# Altium schematic symbol library Semiconductor.SchLib: 8 symbols
Pins are listed as number, name and electrical type; pins without a type are passive.

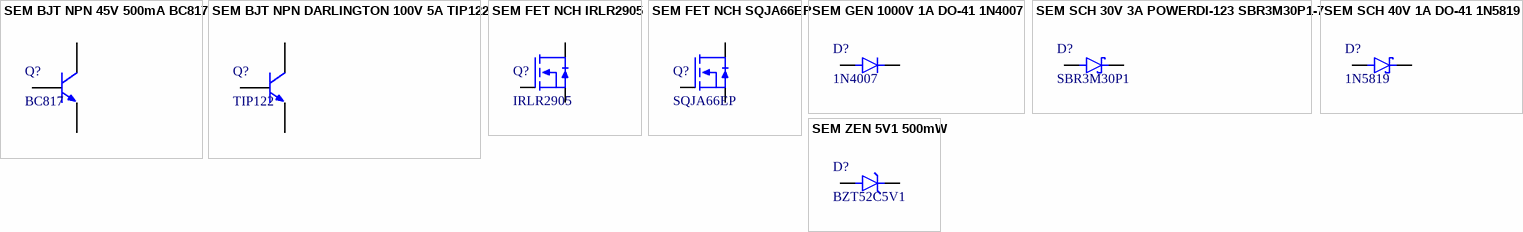
[diagram p0: symbols SEM BJT NPN 45V 500mA BC817 to SEM ZEN 5V1 500mW]

## SEM BJT NPN 45V 500mA BC817
designator Q?, comment BC817
footprint SOT23-3
pins: 1 Base, 2 Emitter, 3 Collector

## SEM BJT NPN DARLINGTON 100V 5A TIP122
designator Q?, comment TIP122
footprint THT TO-220
pins: 1 Base, 2 Collector, 3 Emitter

## SEM FET NCH IRLR2905
designator Q?, comment IRLR2905
footprint SMD D-PAK (TO252AA) (D-PAK, 3-Pads, Body 6.21x6.73mm (max), IPC Medium Density)
pins: 1 Gate, 3 Source, 4 Drain

## SEM FET NCH SQJA66EP
designator Q?, comment SQJA66EP
footprint SMD PowerPAK SO-8L
pins: 1 Source, 4 Gate, 5 Drain

## SEM GEN 1000V 1A DO-41 1N4007
designator D?, comment 1N4007
footprint THT DO-41
pins: A, K

## SEM SCH 30V 3A POWERDI-123 SBR3M30P1-7
designator D?, comment SBR3M30P1
https://lcsc.com/product-detail/Diodes-General-Purpose_Diodes-Incorporated-SBR3M30P1-7_C460953.html
footprint SMD POWERDI 123
pins: A, K

## SEM SCH 40V 1A DO-41 1N5819
designator D?, comment 1N5819
footprint THT DO-41
pins: A, K

## SEM ZEN 5V1 500mW
designator D?, comment BZT52C5V1
footprint SMD SOD-123
pins: A, K